# Altium footprint library Inductors SMD.PcbLib: 2 footprints
Each footprint in its own frame and in the unit in brackets; x right, y up, seen from the top. Pads: shape width x height; smd on the part's side, far side on the other; paste and mask are expansions set on the pad; w line width, h text height; cw(c..) or ccw(c..) is an arc to the next point about the centre after c.
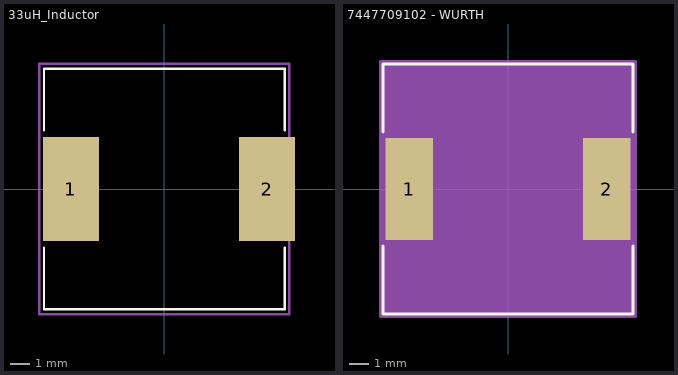
[diagram p0: the footprints below, top view; thin cyan lines are the x and y axes]

## 33uH_Inductor [mm]
pads (2):
  rect 2.9x5.4 smd: 1(-4.85,0) 2(5.334,0)
Top Overlay:
  lines w0.127: -6.25,-3.05 -6.25,-6.25 6.25,-6.25 6.25,-3.05 ; -6.25,3.05 -6.25,6.25 6.25,6.25 6.25,3.05
Mechanical 15:
  lines w0.127: -6.5,-6.5 -6.5,6.5 6.5,6.5 6.5,-6.5 -6.5,-6.5

## 7447709102 - WURTH [mil] "1000uH - 900mA"
pads (2):
  rect 95x205 smd paste+0 mask+0: 1(-198.5,0) 2(198.5,0)
Top Overlay:
  lines w6: -251,-114.61 -251,-251 251,-251 251,-114.61 ; -251,114.61 -251,251 251,251 251,114.61
Mechanical 13:
  lines w1: -246,-246 246,-246 246,246 -246,246 -246,-246
Mechanical 15:
  region: -256,-112.5 -256,112.5 -256,256 256,256 256,112.5 256,-112.5 256,-256 -256,-256
  lines w6: -256,-256 -256,-112.5 -256,112.5 -256,256 256,256 256,112.5 256,-112.5 256,-256 -256,-256
3D body "IND_1210-WE-PD_WRE.step": height 394.09, standoff 0, extent -245.98,-245.98 245.98,245.98